# Altium schematic symbol library CN1509.SchLib: 1 symbol
Pins are listed as number, name and electrical type; pins without a type are passive.

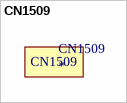
[diagram p0: symbol CN1509]

## CN1509
designator CN1509
footprint cn1509